# EAGLE library part SI7005 (library Cool_Electricity)
Silicon Labs Si7005 Temperature and Humidity Sensor
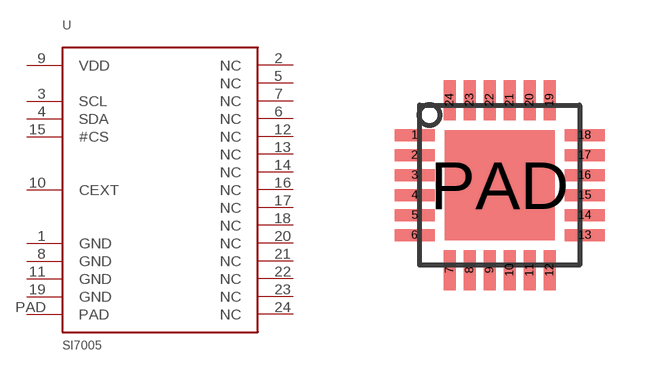
[diagram p4: symbol with the pads of QFN24_SILICON_LABS; footprint QFN24_SILICON_LABS]

Designator prefix U

## SI7005  [QFN24_SILICON_LABS]
1  GND
2  NC
3  SCL
4  SDA
5  NC
6  NC
7  NC
8  GND
9  VDD
10  CEXT
11  GND
12  NC
13  NC
14  NC
15  #CS
16  NC
17  NC
18  NC
19  GND
20  NC
21  NC
22  NC
23  NC
24  NC
PAD  PAD

## Footprint QFN24_SILICON_LABS (pad centres in mm)
smd 1 x 0.3: 1 -2.125,1.25; 2 -2.125,0.75; 3 -2.125,0.25; 4 -2.125,-0.25; 5 -2.125,-0.75; 6 -2.125,-1.25; 13 2.125,-1.25; 14 2.125,-0.75; 15 2.125,-0.25; 16 2.125,0.25; 17 2.125,0.75; 18 2.125,1.25
smd 0.3 x 1: 7 -1.25,-2.125; 8 -0.75,-2.125; 9 -0.25,-2.125; 10 0.25,-2.125; 11 0.75,-2.125; 12 1.25,-2.125; 19 1.25,2.125; 20 0.75,2.125; 21 0.25,2.125; 22 -0.25,2.125; 23 -0.75,2.125; 24 -1.25,2.125
smd 2.75 x 2.75: PAD 0,0